# EAGLE library part DSPIC33EP256GM306 (library FSAE Electric (Alexander Ray's conflicted copy 2016-04-02))
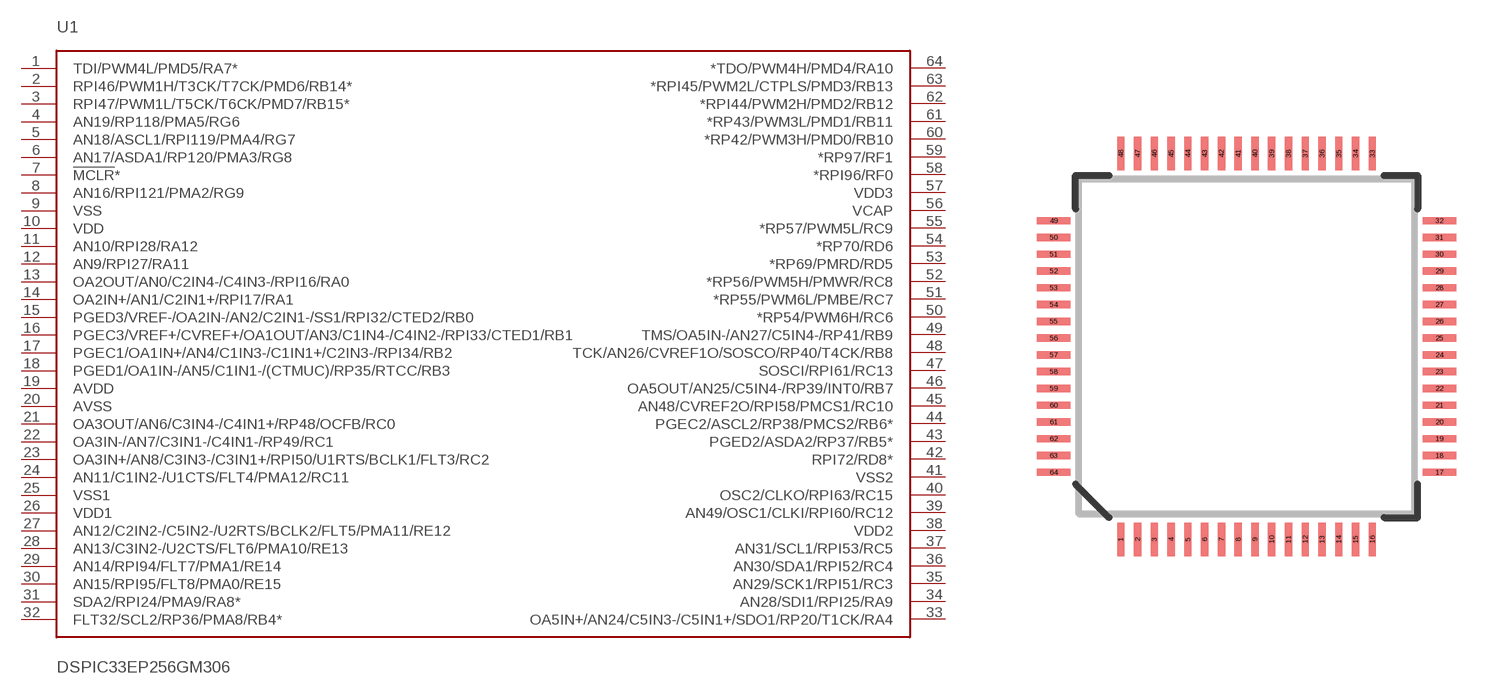
[diagram p11: symbol with the pads of TQFP-64; footprint TQFP-64]

Designator prefix U1

## DSPIC33EP256GM306 (PARTNO: DSPIC33EP256GM306-I/PT)  [TQFP-64]
1  TDI/PWM4L/PMD5/RA7*
2  RPI46/PWM1H/T3CK/T7CK/PMD6/RB14*
3  RPI47/PWM1L/T5CK/T6CK/PMD7/RB15*
4  AN19/RP118/PMA5/RG6
5  AN18/ASCL1/RPI119/PMA4/RG7
6  AN17/ASDA1/RP120/PMA3/RG8
7  !MCLR!*
8  AN16/RPI121/PMA2/RG9
9  VSS
10  VDD
11  AN10/RPI28/RA12
12  AN9/RPI27/RA11
13  OA2OUT/AN0/C2IN4-/C4IN3-/RPI16/RA0
14  OA2IN+/AN1/C2IN1+/RPI17/RA1
15  PGED3/VREF-/OA2IN-/AN2/C2IN1-/SS1/RPI32/CTED2/RB0
16  PGEC3/VREF+/CVREF+/OA1OUT/AN3/C1IN4-/C4IN2-/RPI33/CTED1/RB1
17  PGEC1/OA1IN+/AN4/C1IN3-/C1IN1+/C2IN3-/RPI34/RB2
18  PGED1/OA1IN-/AN5/C1IN1-/(CTMUC)/RP35/RTCC/RB3
19  AVDD
20  AVSS
21  OA3OUT/AN6/C3IN4-/C4IN1+/RP48/OCFB/RC0
22  OA3IN-/AN7/C3IN1-/C4IN1-/RP49/RC1
23  OA3IN+/AN8/C3IN3-/C3IN1+/RPI50/U1RTS/BCLK1/FLT3/RC2
24  AN11/C1IN2-/U1CTS/FLT4/PMA12/RC11
25  VSS1
26  VDD1
27  AN12/C2IN2-/C5IN2-/U2RTS/BCLK2/FLT5/PMA11/RE12
28  AN13/C3IN2-/U2CTS/FLT6/PMA10/RE13
29  AN14/RPI94/FLT7/PMA1/RE14
30  AN15/RPI95/FLT8/PMA0/RE15
31  SDA2/RPI24/PMA9/RA8*
32  FLT32/SCL2/RP36/PMA8/RB4*
33  OA5IN+/AN24/C5IN3-/C5IN1+/SDO1/RP20/T1CK/RA4
34  AN28/SDI1/RPI25/RA9
35  AN29/SCK1/RPI51/RC3
36  AN30/SDA1/RPI52/RC4
37  AN31/SCL1/RPI53/RC5
38  VDD2
39  AN49/OSC1/CLKI/RPI60/RC12
40  OSC2/CLKO/RPI63/RC15
41  VSS2
42  RPI72/RD8*
43  PGED2/ASDA2/RP37/RB5*
44  PGEC2/ASCL2/RP38/PMCS2/RB6*
45  AN48/CVREF2O/RPI58/PMCS1/RC10
46  OA5OUT/AN25/C5IN4-/RP39/INT0/RB7
47  SOSCI/RPI61/RC13
48  TCK/AN26/CVREF1O/SOSCO/RP40/T4CK/RB8
49  TMS/OA5IN-/AN27/C5IN4-/RP41/RB9
50  *RP54/PWM6H/RC6
51  *RP55/PWM6L/PMBE/RC7
52  *RP56/PWM5H/PMWR/RC8
53  *RP69/PMRD/RD5
54  *RP70/RD6
55  *RP57/PWM5L/RC9
56  VCAP
57  VDD3
58  *RPI96/RF0
59  *RP97/RF1
60  *RP42/PWM3H/PMD0/RB10
61  *RP43/PWM3L/PMD1/RB11
62  *RPI44/PWM2H/PMD2/RB12
63  *RPI45/PWM2L/CTPLS/PMD3/RB13
64  *TDO/PWM4H/PMD4/RA10

## Footprint TQFP-64 (pad centres in mm)
smd 0.22 x 1: 1 -3.75,-5.75; 2 -3.25,-5.75; 3 -2.75,-5.75; 4 -2.25,-5.75; 5 -1.75,-5.75; 6 -1.25,-5.75; 7 -0.75,-5.75; 8 -0.25,-5.75; 9 0.25,-5.75; 10 0.75,-5.75; 11 1.25,-5.75; 12 1.75,-5.75; 13 2.25,-5.75; 14 2.75,-5.75; 15 3.25,-5.75; 16 3.75,-5.75; 33 3.75,5.75; 34 3.25,5.75; 35 2.75,5.75; 36 2.25,5.75; 37 1.75,5.75; 38 1.25,5.75; 39 0.75,5.75; 40 0.25,5.75; 41 -0.25,5.75; 42 -0.75,5.75; 43 -1.25,5.75; 44 -1.75,5.75; 45 -2.25,5.75; 46 -2.75,5.75; 47 -3.25,5.75; 48 -3.75,5.75
smd 1 x 0.22: 17 5.75,-3.75; 18 5.75,-3.25; 19 5.75,-2.75; 20 5.75,-2.25; 21 5.75,-1.75; 22 5.75,-1.25; 23 5.75,-0.75; 24 5.75,-0.25; 25 5.75,0.25; 26 5.75,0.75; 27 5.75,1.25; 28 5.75,1.75; 29 5.75,2.25; 30 5.75,2.75; 31 5.75,3.25; 32 5.75,3.75; 49 -5.75,3.75; 50 -5.75,3.25; 51 -5.75,2.75; 52 -5.75,2.25; 53 -5.75,1.75; 54 -5.75,1.25; 55 -5.75,0.75; 56 -5.75,0.25; 57 -5.75,-0.25; 58 -5.75,-0.75; 59 -5.75,-1.25; 60 -5.75,-1.75; 61 -5.75,-2.25; 62 -5.75,-2.75; 63 -5.75,-3.25; 64 -5.75,-3.75